# Altium integrated library TLP281-4.IntLib: 1 symbol
Pins are listed as number, name and electrical type; pins without a type are passive.

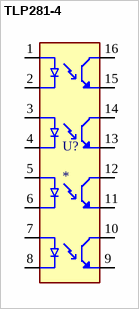
[diagram p0: symbol TLP281-4]

## TLP281-4
designator U?
Optoisolator Transistor Output 2500Vrms 4 Channel 16-SOP; MF: Toshiba Semiconductor; MP: TLP281-4; SnapEDA_Link: https://www.snapeda.com/parts/TLP281-4/Toshiba/view-part/?ref=snap; Package: SOP-16 Toshiba; Value: *; Check_prices: https://www.snapeda.com/parts/TLP281-4/Toshiba/view-part/?ref=eda
footprint SOIC127P700X210-16N
pins: 1 A1, 2 C1, 3 A2, 4 C2, 5 A3, 6 C3, 7 A4, 8 C4, 9 ET4, 10 CT4, 11 ET3, 12 CT3, 13 ET2, 14 CT2, 15 ET1, 16 CT1